# Altium footprint library SMD Library.PcbLib: 53 footprints (part 1 of 4)
Each footprint in its own frame and in the unit in brackets; x right, y up, seen from the top. Pads: shape width x height; smd on the part's side, far side on the other; paste and mask are expansions set on the pad; w line width, h text height; cw(c..) or ccw(c..) is an arc to the next point about the centre after c.
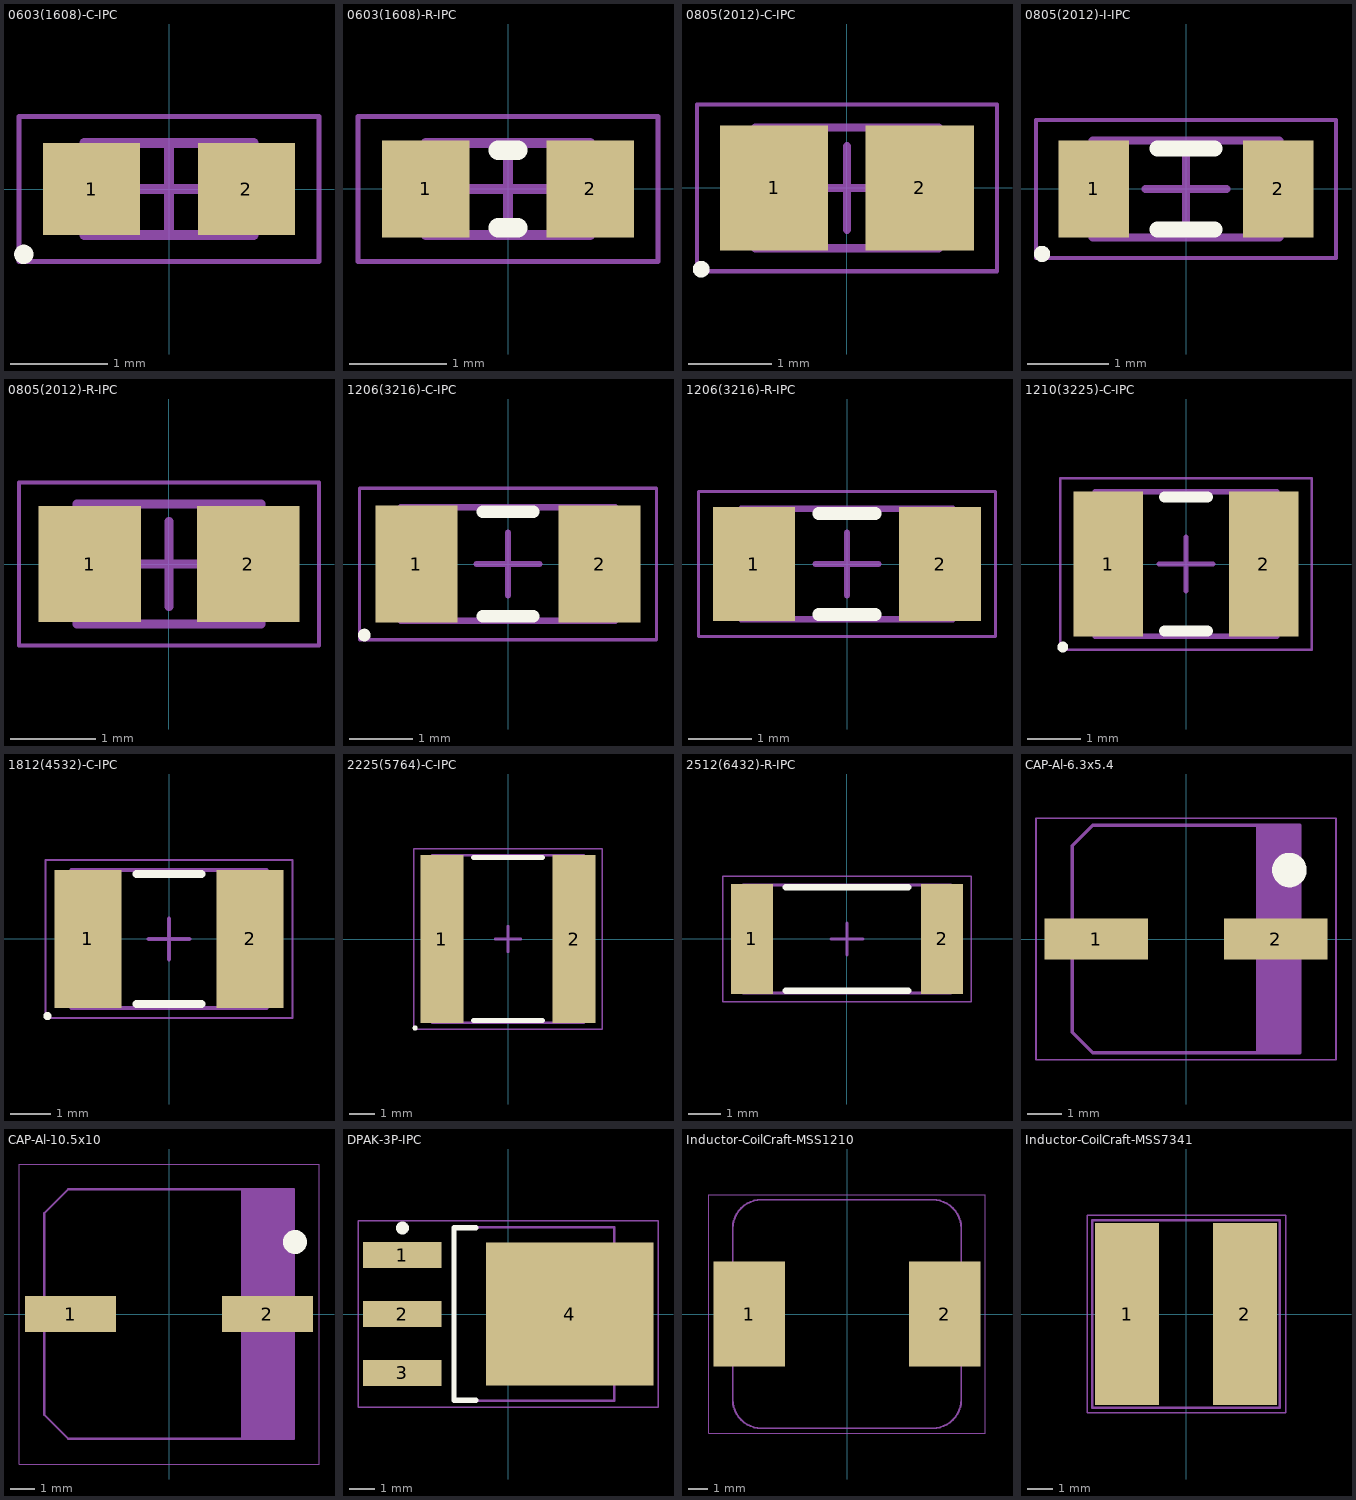
[diagram p0: the footprints below, top view; thin cyan lines are the x and y axes]

## 0603(1608)-C-IPC [mm] "Chip Capacitor, 2-Leads, Body 1.60x0.80mm, IPC Medium Density"
height 0.85
pads (2):
  rect 1x0.95 smd: 1(-0.8,0) 2(0.8,0)
Top Overlay:
  circle w0.1: c-1.5,-0.675 r0.05
Mechanical 13:
  lines w0.1: -0.875,-0.475 -0.875,0.475 0.875,0.475 0.875,-0.475 -0.875,-0.475
Mechanical 15:
  lines w0.05: -1.55,-0.75 -1.55,0.75 1.55,0.75 1.55,-0.75 -1.55,-0.75
  lines w0.1: -0.475,0 0.475,0 ; 0,-0.475 0,0.475
3D body: height 0.85, standoff 0, extent -0.525,-0.475 0.525,0.475
3D body: height 0.85, standoff 0, extent -0.875,-0.475 -0.525,0.475
3D body: height 0.85, standoff 0, extent 0.525,-0.475 0.875,0.475

## 0603(1608)-R-IPC [mm] "Chip Resistor, 2-Leads, Body 1.60x0.82mm, IPC Medium Density"
height 0.6
pads (2):
  rect 0.9x1 smd: 1(-0.85,0) 2(0.85,0)
Top Overlay:
  lines w0.2: -0.1,-0.4 0.1,-0.4 ; -0.1,0.4 0.1,0.4
Mechanical 13:
  lines w0.1: -0.85,-0.475 -0.85,0.475 0.85,0.475 0.85,-0.475 -0.85,-0.475
Mechanical 15:
  lines w0.05: -1.55,-0.75 -1.55,0.75 1.55,0.75 1.55,-0.75 -1.55,-0.75
  lines w0.1: -0.475,0 0.475,0 ; 0,-0.475 0,0.475
3D body: height 0.6, standoff 0, extent -0.57,-0.475 0.57,0.475
3D body: height 0.6, standoff 0, extent -0.85,-0.475 -0.57,0.475
3D body: height 0.6, standoff 0, extent 0.57,-0.475 0.85,0.475

## 0805(2012)-C-IPC [mm] "Chip Capacitor, 2-Leads, Body 2.00x1.25mm, IPC Medium Density"
height 1.1
pads (2):
  rect 1.3x1.5 smd: 1(-0.875,0) 2(0.875,0)
Top Overlay:
  circle w0.1: c-1.75,-0.975 r0.05
Mechanical 13:
  lines w0.1: -1.1,-0.725 1.1,-0.725 1.1,0.725 -1.1,0.725 -1.1,-0.725
Mechanical 15:
  lines w0.05: -1.8,-1 1.8,-1 1.8,1 -1.8,1 -1.8,-1
  lines w0.1: -0.5,0 0.5,0 ; 0,-0.5 0,0.5
3D body: height 1.1, standoff 0, extent 0.6,-0.725 1.1,0.725
3D body: height 1.1, standoff 0, extent -1.1,-0.725 -0.6,0.725
3D body: height 1.1, standoff 0, extent -0.6,-0.725 0.6,0.725

## 0805(2012)-I-IPC [mm] "Chip Inductor, 2-Leads, Body 2.00x0.90mm, IPC Medium Density"
height 1.2
pads (2):
  rect 0.87x1.2 smd: 1(-1.14,0) 2(1.14,0)
Top Overlay:
  circle w0.1: c-1.775,-0.8 r0.05
  lines w0.2: -0.35,-0.5 0.35,-0.5 ; -0.35,0.5 0.35,0.5
Mechanical 13:
  lines w0.1: -1.15,-0.6 1.15,-0.6 1.15,0.6 -1.15,0.6 -1.15,-0.6
Mechanical 15:
  lines w0.05: -1.85,-0.85 1.85,-0.85 1.85,0.85 -1.85,0.85 -1.85,-0.85
  lines w0.1: -0.5,0 0.5,0 ; 0,-0.5 0,0.5
3D body: height 1.2, standoff 0, extent 0.95,-0.6 1.15,0.6
3D body: height 1.2, standoff 0, extent -1.15,-0.6 -0.95,0.6
3D body: height 1.2, standoff 0, extent -0.95,-0.6 0.95,0.6

## 0805(2012)-R-IPC [mm] "Chip Resistor, 2-Leads, Body 2.00x1.25mm, IPC Medium Density"
height 0.6
pads (2):
  rect 1.2x1.35 smd: 1(-0.925,0) 2(0.925,0)
Mechanical 13:
  lines w0.1: -1.075,-0.7 1.075,-0.7 1.075,0.7 -1.075,0.7 -1.075,-0.7
Mechanical 15:
  lines w0.05: -1.75,-0.95 1.75,-0.95 1.75,0.95 -1.75,0.95 -1.75,-0.95
  lines w0.1: -0.5,0 0.5,0 ; 0,-0.5 0,0.5
3D body: height 0.6, standoff 0, extent 0.675,-0.7 1.075,0.7
3D body: height 0.6, standoff 0, extent -1.075,-0.7 -0.675,0.7
3D body: height 0.6, standoff 0, extent -0.675,-0.7 0.675,0.7

## 1206(3216)-C-IPC [mm] "Chip Capacitor, 2-Leads, Body 3.20x1.60mm, IPC Medium Density"
height 1.8
pads (2):
  rect 1.3x1.85 smd: 1(-1.45,0) 2(1.45,0)
Top Overlay:
  circle w0.1: c-2.275,-1.125 r0.05
  lines w0.2: -0.4,-0.825 0.4,-0.825 ; -0.4,0.825 0.4,0.825
Mechanical 13:
  lines w0.1: -1.7,-0.9 -1.7,0.9 1.7,0.9 1.7,-0.9 -1.7,-0.9
Mechanical 15:
  lines w0.05: -2.35,-1.2 -2.35,1.2 2.35,1.2 2.35,-1.2 -2.35,-1.2
  lines w0.1: -0.5,0 0.5,0 ; 0,-0.5 0,0.5
3D body: height 1.8, standoff 0, extent -1.2,-0.9 1.2,0.9
3D body: height 1.8, standoff 0, extent -1.7,-0.9 -1.2,0.9
3D body: height 1.8, standoff 0, extent 1.2,-0.9 1.7,0.9

## 1206(3216)-R-IPC [mm] "Chip Resistor, 2-Leads, Body 3.20x1.60mm, IPC Medium Density"
height 0.7
pads (2):
  rect 1.3x1.8 smd: 1(-1.475,0) 2(1.475,0)
Top Overlay:
  lines w0.2: -0.45,-0.8 0.45,-0.8 ; -0.45,0.8 0.45,0.8
Mechanical 13:
  lines w0.1: -1.675,-0.875 -1.675,0.875 1.675,0.875 1.675,-0.875 -1.675,-0.875
Mechanical 15:
  lines w0.05: -2.35,-1.15 -2.35,1.15 2.35,1.15 2.35,-1.15 -2.35,-1.15
  lines w0.1: -0.5,0 0.5,0 ; 0,-0.5 0,0.5
3D body: height 0.7, standoff 0, extent -1.175,-0.875 1.175,0.875
3D body: height 0.7, standoff 0, extent -1.675,-0.875 -1.175,0.875
3D body: height 0.7, standoff 0, extent 1.175,-0.875 1.675,0.875

## 1210(3225)-C-IPC [mm] "Chip Capacitor, 2-Leads, Body 3.20x2.50mm, IPC Medium Density"
height 2.7
pads (2):
  rect 1.3x2.7 smd: 1(-1.45,0) 2(1.45,0)
Top Overlay:
  circle w0.1: c-2.3,-1.55 r0.05
  lines w0.2: -0.4,-1.25 0.4,-1.25 ; -0.4,1.25 0.4,1.25
Mechanical 13:
  lines w0.1: -1.7,-1.35 -1.7,1.35 1.7,1.35 1.7,-1.35 -1.7,-1.35
Mechanical 15:
  lines w0.05: -2.35,-1.6 -2.35,1.6 2.35,1.6 2.35,-1.6 -2.35,-1.6
  lines w0.1: -0.5,0 0.5,0 ; 0,-0.5 0,0.5
3D body: height 2.7, standoff 0, extent -1.2,-1.35 1.2,1.35
3D body: height 2.7, standoff 0, extent -1.7,-1.35 -1.2,1.35
3D body: height 2.7, standoff 0, extent 1.2,-1.35 1.7,1.35

## 1812(4532)-C-IPC [mm] "Chip Capacitor, 2-Leads, Body 4.50x3.20mm, IPC Medium Density"
height 3.5
pads (2):
  rect 1.65x3.4 smd: 1(-2,0) 2(2,0)
Top Overlay:
  circle w0.1: c-3,-1.9 r0.05
  lines w0.2: -0.8,-1.6 0.8,-1.6 ; -0.8,1.6 0.8,1.6
Mechanical 13:
  lines w0.1: -2.4,-1.7 -2.4,1.7 2.4,1.7 2.4,-1.7 -2.4,-1.7
Mechanical 15:
  lines w0.05: -3.05,-1.95 -3.05,1.95 3.05,1.95 3.05,-1.95 -3.05,-1.95
  lines w0.1: -0.5,0 0.5,0 ; 0,-0.5 0,0.5
3D body: height 3.5, standoff 0, extent -1.79,-1.7 1.79,1.7
3D body: height 3.5, standoff 0, extent -2.4,-1.7 -1.79,1.7
3D body: height 3.5, standoff 0, extent 1.79,-1.7 2.4,1.7

## 2225(5764)-C-IPC [mm] "Chip Capacitor, 2-Leads, Body 5.72x6.35mm, IPC Medium Density"
height 5.1
pads (2):
  rect 1.7x6.6 smd: 1(-2.6,0) 2(2.6,0)
Top Overlay:
  circle w0.1: c-3.65,-3.5 r0.05
  lines w0.2: -1.35,-3.2 1.35,-3.2 ; -1.35,3.2 1.35,3.2
Mechanical 13:
  lines w0.1: -2.985,-3.3 -2.985,3.3 2.985,3.3 2.985,-3.3 -2.985,-3.3
Mechanical 15:
  lines w0.05: -3.7,-3.55 -3.7,3.55 3.7,3.55 3.7,-3.55 -3.7,-3.55
  lines w0.1: -0.5,0 0.5,0 ; 0,-0.5 0,0.5
3D body: height 5.1, standoff 0, extent -2.345,-3.3 2.345,3.3
3D body: height 5.1, standoff 0, extent -2.985,-3.3 -2.345,3.3
3D body: height 5.1, standoff 0, extent 2.345,-3.3 2.985,3.3

## 2512(6432)-R-IPC [mm] "Chip Resistor, 2-Leads, Body 6.40x3.20mm, IPC Medium Density"
height 0.7
pads (2):
  rect 1.3x3.4 smd: 1(-2.95,0) 2(2.95,0)
Top Overlay:
  lines w0.2: -1.9,-1.6 1.9,-1.6 ; -1.9,1.6 1.9,1.6
Mechanical 13:
  lines w0.1: -3.225,-1.675 3.225,-1.675 3.225,1.675 -3.225,1.675 -3.225,-1.675
Mechanical 15:
  lines w0.05: -3.85,-1.95 3.85,-1.95 3.85,1.95 -3.85,1.95 -3.85,-1.95
  lines w0.1: -0.5,0 0.5,0 ; 0,-0.5 0,0.5
3D body: height 0.7, standoff 0, extent 2.625,-1.675 3.225,1.675
3D body: height 0.7, standoff 0, extent -3.225,-1.675 -2.625,1.675
3D body: height 0.7, standoff 0, extent -2.625,-1.675 2.625,1.675

## CAP-Al-6.3x5.4 [mm] "Aluminium Electrolytic Capacitor, 2-Leads, Body 6.3x5.4mm, SMD"
height 5.4
pads (2):
  rect 3x1.2 smd: 1(-2.6,0) 2(2.6,0)
Top Overlay:
  circle w0.5: c3,2 r0.25
Mechanical 13:
  rectangle: 2.025,-3.3 3.3,3.3
  lines w0.1: -3.3,-2.7 -3.3,2.7 -2.7,3.3 3.3,3.3 3.3,-3.3 -2.7,-3.3 -3.3,-2.7
Mechanical 15:
  lines w0.05: -4.35,-3.5 4.35,-3.5 4.35,3.5 -4.35,3.5 -4.35,-3.5
3D body: height 5.4, standoff 0, extent -3.125,-3.144 3.15,3.144
3D body: height 1.4, standoff 0, extent -3.3,-3.3 3.3,3.3

## CAP-Al-10.5x10 [mm] "Aluminium Electrolytic Capacitor, 2-Leads, Body 10.5x10mm, SMD"
height 10.5
pads (2):
  rect 3.8x1.5 smd: 1(-4.1,0) 2(4.1,0)
Top Overlay:
  circle w0.5: c5.25,3 r0.25
Mechanical 13:
  rectangle: 3,-5.2 5.2,5.2
  lines w0.1: -5.2,-4.2 -5.2,4.2 -4.2,5.2 5.2,5.2 5.2,-5.2 -4.2,-5.2 -5.2,-4.2
Mechanical 15:
  lines w0.05: -6.25,-6.25 6.25,-6.25 6.25,6.25 -6.25,6.25 -6.25,-6.25
3D body: height 10.5, standoff 0, extent -4.961,-4.99 5,4.99
3D body: height 1.4, standoff 0, extent -5.2,-5.2 5.2,5.2

## DPAK-3P-IPC [mm] "D-PAK, 4-Pads, Body 6.21x6.73mm (max), IPC Medium Density"
height 2.38
pads (4):
  rect 3.05x1 smd: 1(-4.1,2.29) 2(-4.1,0) 3(-4.1,-2.29)
  rect 6.5x5.55 smd: 4(2.4,0)
Top Overlay:
  circle w0.25: c-4.1,3.34 r0.125
  lines w0.2: -1.25,-3.35 -2.1,-3.35 -2.1,3.35 -1.25,3.35
Mechanical 13:
  lines w0.1: -2.1,-3.375 4.12,-3.375 4.12,3.375 -2.1,3.375 -2.1,-3.375
Mechanical 15:
  lines w0.05: -5.825,-3.625 5.825,-3.625 5.825,3.625 -5.825,3.625 -5.825,-3.625
  lines w0.1: -0.5,0 0.5,0 ; 0,-0.5 0,0.5
3D body: height 2.38, standoff 0, extent -2.1,-3.375 4.12,3.375

## Inductor-CoilCraft-MSS1210 [mm] "COILCRAFT - MSS1210"
height 10
pads (2):
  rect 3.75x5.5 smd: 1(-5.125,0) 2(5.125,0)
Mechanical 13:
  lines w0.1: -6,-4.5 ccw(c-4.5,-4.5) -4.5,-6 4.5,-6 ccw(c4.5,-4.5) 6,-4.5 6,4.5 ccw(c4.5,4.5) 4.5,6 -4.5,6 ccw(c-4.5,4.5) -6,4.5 -6,-4.5
Mechanical 15:
  lines w0.05: -7.25,-6.25 -7.25,6.25 7.25,6.25 7.25,-6.25 -7.25,-6.25
3D body: height 10, standoff 0, extent -6,-6 6,6
3D body: height 9.5, standoff 0, extent -4.961,-4.99 5,4.99
3D body: height 10, standoff 0, extent -3.968,-3.992 4,3.992

## Inductor-CoilCraft-MSS7341 [mm] "COILCRAFT - MSS7341"
height 4.1
pads (2):
  rect 2.5x7.1 smd: 1(-2.3,0) 2(2.3,0)
Mechanical 13:
  lines w0.1: -3.65,-3.65 3.65,-3.65 3.65,3.65 -3.65,3.65 -3.65,-3.65
Mechanical 15:
  lines w0.05: -3.85,-3.85 -3.85,3.85 3.9,3.85 3.9,-3.85 -3.85,-3.85
3D body: height 4.1, standoff 0, extent -3.571,-3.593 3.6,3.593
3D body: height 4, standoff 0, extent -3.65,-3.65 3.65,3.65